# Altium footprint library LED and Display.PcbLib: 6 footprints
Each footprint in its own frame and in the unit in brackets; x right, y up, seen from the top. Pads: shape width x height; smd on the part's side, far side on the other; paste and mask are expansions set on the pad; w line width, h text height; cw(c..) or ccw(c..) is an arc to the next point about the centre after c.
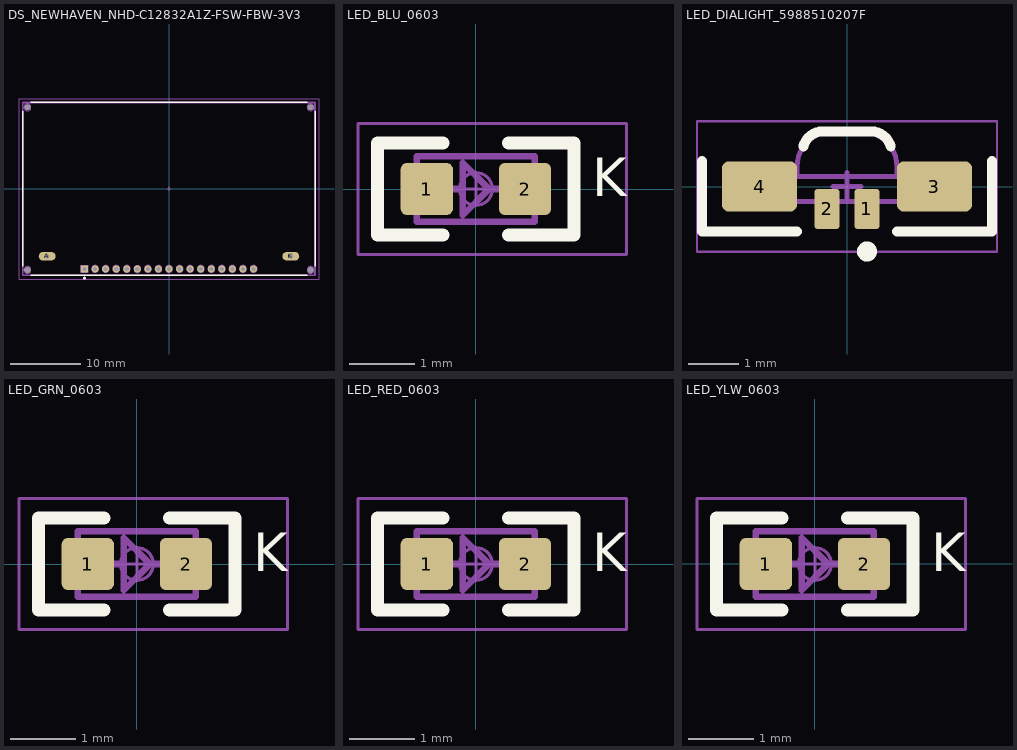
[diagram p0: the footprints below, top view; thin cyan lines are the x and y axes]

## DS_NEWHAVEN_NHD-C12832A1Z-FSW-FBW-3V3 [mm] "LCH Newhaven Display NHD-C12832A1Z-FSW-FBW-3V3"
height 4
pads (23):
  rrect25% 1x1 hole 0.6: 1(-12,-11.4)
  round 1 hole 0.6: 2(-10.5,-11.4) 3(-9,-11.4) 4(-7.5,-11.4) 5(-6,-11.4) 6(-4.5,-11.4) 7(-3,-11.4) 8(-1.5,-11.4) 9(0,-11.4) 10(1.5,-11.4) 11(3,-11.4) 12(4.5,-11.4) 13(6,-11.4) 14(7.5,-11.4) 15(9,-11.4) 16(10.5,-11.4) 17(12,-11.4)
  oval 2.4x1.2 hole 0.7 square: A(-17.3,-9.6) K(17.3,-9.6)
  round 0.8 hole 0.8 unplated: ""(-20.1,-11.55) ""(-20.1,11.55) ""(20.1,-11.557) ""(20.1,11.55)
Top Overlay:
  circle w0.2: c-12,-12.7 r0.1
  lines w0.2: -20.8,-11 -20.8,11 ; -19.6,-12.3 19.6,-12.3 ; -19.6,12.3 19.6,12.3 ; 20.8,-11 20.8,11
Top Component Outline:
  circle w0.2: c-12,-12.7 r0.1
  lines w0.1: -20.7,-12.2 -20.7,12.2 20.7,12.2 20.7,-12.2 -20.7,-12.2
Top Courtyard:
  lines w0.05: -21.3,-12.9 -21.3,12.8 21.3,12.8 21.3,-12.9 -21.3,-12.9
Top Component Center:
  lines w0.1: -0.275,0 0.275,0 ; 0,-0.275 0,0.275
Top Designator:
  text ".Designator" at -4.04,-0.476 h2
Top Assembly:
  circle w0.1: c-20.1,11.55 r0.5
  circle w0.1: c20.1,11.55 r0.5
  circle w0.1: c20.1,-11.55 r0.5
  circle w0.1: c-20.1,-11.55 r0.5
  circle w0.1: c12.003,-11.397 r0.5
  circle w0.1: c10.503,-11.397 r0.5
  circle w0.1: c9.003,-11.397 r0.5
  circle w0.1: c7.503,-11.397 r0.5
  circle w0.1: c6.003,-11.397 r0.5
  circle w0.1: c4.503,-11.397 r0.5
  circle w0.1: c3.003,-11.397 r0.5
  circle w0.1: c1.503,-11.397 r0.5
  circle w0.1: c0.003,-11.397 r0.5
  circle w0.1: c-1.497,-11.397 r0.5
  circle w0.1: c-2.997,-11.397 r0.5
  circle w0.1: c-4.497,-11.422 r0.5
  circle w0.1: c-5.997,-11.397 r0.5
  circle w0.1: c-7.497,-11.397 r0.5
  circle w0.1: c-8.997,-11.397 r0.5
  circle w0.1: c-10.5,-11.4 r0.5
  lines w0.1: -18,-10 -18,-9.2 -16.6,-9.2 -16.6,-10 -18,-10 ; -12.5,-11.9 -12.5,-10.9 -11.5,-10.9 -11.5,-11.9 -12.5,-11.9 ; 16.6,-10 16.6,-9.2 18,-9.2 18,-10 16.6,-10
  lines w0.2: -20.8,-12.3 -20.8,12.3 20.8,12.3 20.8,-12.3 -20.8,-12.3
  text ".Designator" at -4.04,-0.476 h2
3D body "NEWHAVEN_NHD-C12832A1Z.step": height 4, standoff -3, extent -20.7,-12.15 20.7,12.15

## LED_BLU_0603 [mm] "LED 0603 (1608 Metric) Blue"
height 0.6
pads (2):
  rrect25% 0.8x0.8 smd: 1(-0.75,0) 2(0.75,0)
Top Overlay:
  lines w0.2: -0.5,-0.7 -1.5,-0.7 -1.5,0.7 -0.5,0.7 ; 0.5,-0.7 1.5,-0.7 1.5,0.7 0.5,0.7
  text "K" at 1.78,-0.299 h1
Top Component Outline:
  lines w0.1: -0.5,0 -0.2,0 ; 0.5,0 0.2,0 ; 0.2,0 -0.2,0.4 -0.2,-0.4 0.2,0 ; -0.9,-0.5 -0.9,0.5 0.9,0.5 0.9,-0.5 -0.9,-0.5
Top Courtyard:
  lines w0.05: -1.8,-1 2.3,-1 2.3,1 -1.8,1 -1.8,-1
Top Component Center:
  circle w0.05: c0,0 r0.25
  lines w0.05: -0.25,0 0.25,0 ; 0,-0.25 0,0.25
Top Designator:
  text ".Designator" at -4.04,-0.476 h2
Top Assembly:
  lines w0.1: -0.5,0 -0.2,0 ; 0.5,0 0.2,0 ; 0.2,0 -0.2,0.4 -0.2,-0.4 0.2,0 ; -0.9,-0.5 -0.9,0.5 0.9,0.5 0.9,-0.5 -0.9,-0.5
  text ".Designator" at -4.04,-1.776 h2
3D body "LED_0603_B.step": height 0.6, standoff 0, extent -0.8,-0.4 0.8,0.4

## LED_DIALIGHT_5988510207F [mm] "LED Red - Yellow/Green Dialight Right Angle view"
height 0.39
pads (4):
  rrect25% 0.5x0.8 smd: 1(0.4,-0.45) 2(-0.4,-0.45)
  rrect25% 1.5x1 smd: 3(1.75,0) 4(-1.75,0)
Top Overlay:
  circle w0.2: c0.4,-1.3 r0.1
  lines w0.2: -2.9,0.508 -2.9,-0.9 -1,-0.9 ; -0.875,0.8 cw(c-0.487,0.703) -0.487,1.103 0.487,1.103 cw(c0.487,0.703) 0.875,0.8 ; 1,-0.9 2.9,-0.9 2.9,0.508
Top Component Outline:
  circle w0.2: c0.4,-0.6 r0.1
  lines w0.1: -1,0.2 -1,0.4 cw(c-0.309,0.4) -0.309,1.091 0.309,1.091 cw(c0.309,0.4) 1,0.4 1,0.2 ; -1.7,-0.3 -1.7,0.2 1.7,0.2 1.7,-0.3 -1.7,-0.3
Top Courtyard:
  lines w0.05: -3,-1.3 -3,1.3 3,1.3 3,-1.3 -3,-1.3
Top Component Center:
  lines w0.1: -0.275,0 0.275,0 ; 0,-0.275 0,0.275
Top Designator:
  text ".Designator" at -4.04,-0.476 h2
Top Assembly:
  circle w0.2: c0.4,-0.6 r0.1
  lines w0.1: -1,0.2 -1,0.4 cw(c-0.309,0.4) -0.309,1.091 0.309,1.091 cw(c0.309,0.4) 1,0.4 1,0.2 ; -1.7,-0.3 -1.7,0.2 1.7,0.2 1.7,-0.3 -1.7,-0.3
  text ".Designator" at -4.04,-0.476 h2
3D body "LED_1208_bi_and_tri.step": height 1, standoff 0, extent -1.6,-0.488 1.6,0.922

## LED_GRN_0603 [mm] "LED 0603 (1608 Metric) Green"
height 0.6
pads (2):
  rrect25% 0.8x0.8 smd: 1(-0.75,0) 2(0.75,0)
Top Overlay:
  lines w0.2: -0.5,-0.7 -1.5,-0.7 -1.5,0.7 -0.5,0.7 ; 0.5,-0.7 1.5,-0.7 1.5,0.7 0.5,0.7
  text "K" at 1.78,-0.299 h1
Top Component Outline:
  lines w0.1: -0.5,0 -0.2,0 ; 0.5,0 0.2,0 ; 0.2,0 -0.2,-0.4 -0.2,0.4 0.2,0 ; -0.9,-0.5 0.9,-0.5 0.9,0.5 -0.9,0.5 -0.9,-0.5
Top Courtyard:
  lines w0.05: -1.8,-1 -1.8,1 2.3,1 2.3,-1 -1.8,-1
Top Component Center:
  circle w0.05: c0,0 r0.25
  lines w0.05: -0.25,0 0.25,0 ; 0,-0.25 0,0.25
Top Designator:
  text ".Designator" at -4.04,-0.476 h2
Top Assembly:
  lines w0.1: -0.5,0 -0.2,0 ; 0.5,0 0.2,0 ; 0.2,0 -0.2,-0.4 -0.2,0.4 0.2,0 ; -0.9,-0.5 0.9,-0.5 0.9,0.5 -0.9,0.5 -0.9,-0.5
  text ".Designator" at -4.04,-1.776 h2
3D body "LED_0603_G.step": height 0.6, standoff 0, extent -0.8,-0.4 0.8,0.4

## LED_RED_0603 [mm] "LED 0603 (1608 Metric) Red"
height 0.6
pads (2):
  rrect25% 0.8x0.8 smd: 1(-0.75,0) 2(0.75,0)
Top Overlay:
  lines w0.2: -0.5,-0.7 -1.5,-0.7 -1.5,0.7 -0.5,0.7 ; 0.5,-0.7 1.5,-0.7 1.5,0.7 0.5,0.7
  text "K" at 1.78,-0.299 h1
Top Component Outline:
  lines w0.1: -0.5,0 -0.2,0 ; 0.5,0 0.2,0 ; 0.2,0 -0.2,-0.4 -0.2,0.4 0.2,0 ; -0.9,-0.5 0.9,-0.5 0.9,0.5 -0.9,0.5 -0.9,-0.5
Top Courtyard:
  lines w0.05: -1.8,-1 -1.8,1 2.3,1 2.3,-1 -1.8,-1
Top Component Center:
  circle w0.05: c0,0 r0.25
  lines w0.05: -0.25,0 0.25,0 ; 0,-0.25 0,0.25
Top Designator:
  text ".Designator" at -4.04,-0.476 h2
Top Assembly:
  lines w0.1: -0.5,0 -0.2,0 ; 0.5,0 0.2,0 ; 0.2,0 -0.2,-0.4 -0.2,0.4 0.2,0 ; -0.9,-0.5 0.9,-0.5 0.9,0.5 -0.9,0.5 -0.9,-0.5
  text ".Designator" at -4.04,-1.776 h2
3D body "LED_0603_R.step": height 0.6, standoff 0, extent -0.8,-0.4 0.8,0.4

## LED_YLW_0603 [mm] "LED 0603 (1608 Metric) Yellow"
height 0.6
pads (2):
  rrect25% 0.8x0.8 smd: 1(-0.75,0) 2(0.75,0)
Top Overlay:
  lines w0.2: -0.5,-0.7 -1.5,-0.7 -1.5,0.7 -0.5,0.7 ; 0.5,-0.7 1.5,-0.7 1.5,0.7 0.5,0.7
  text "K" at 1.78,-0.299 h1
Top Component Outline:
  lines w0.1: -0.5,0 -0.2,0 ; 0.5,0 0.2,0 ; 0.2,0 -0.2,0.4 -0.2,-0.4 0.2,0 ; -0.9,-0.5 -0.9,0.5 0.9,0.5 0.9,-0.5 -0.9,-0.5
Top Courtyard:
  lines w0.05: -1.8,-1 2.3,-1 2.3,1 -1.8,1 -1.8,-1
Top Component Center:
  circle w0.05: c0,0 r0.25
  lines w0.05: -0.25,0 0.25,0 ; 0,-0.25 0,0.25
Top Designator:
  text ".Designator" at -4.04,-0.476 h2
Top Assembly:
  lines w0.1: -0.5,0 -0.2,0 ; 0.5,0 0.2,0 ; 0.2,0 -0.2,0.4 -0.2,-0.4 0.2,0 ; -0.9,-0.5 -0.9,0.5 0.9,0.5 0.9,-0.5 -0.9,-0.5
  text ".Designator" at -4.04,-1.776 h2
3D body "LED_0603_Y.step": height 0.6, standoff 0, extent -0.8,-0.4 0.8,0.4